# Altium schematic symbol library 电流检测IC.SchLib: 6 symbols
Pins are listed as number, name and electrical type; pins without a type are passive.

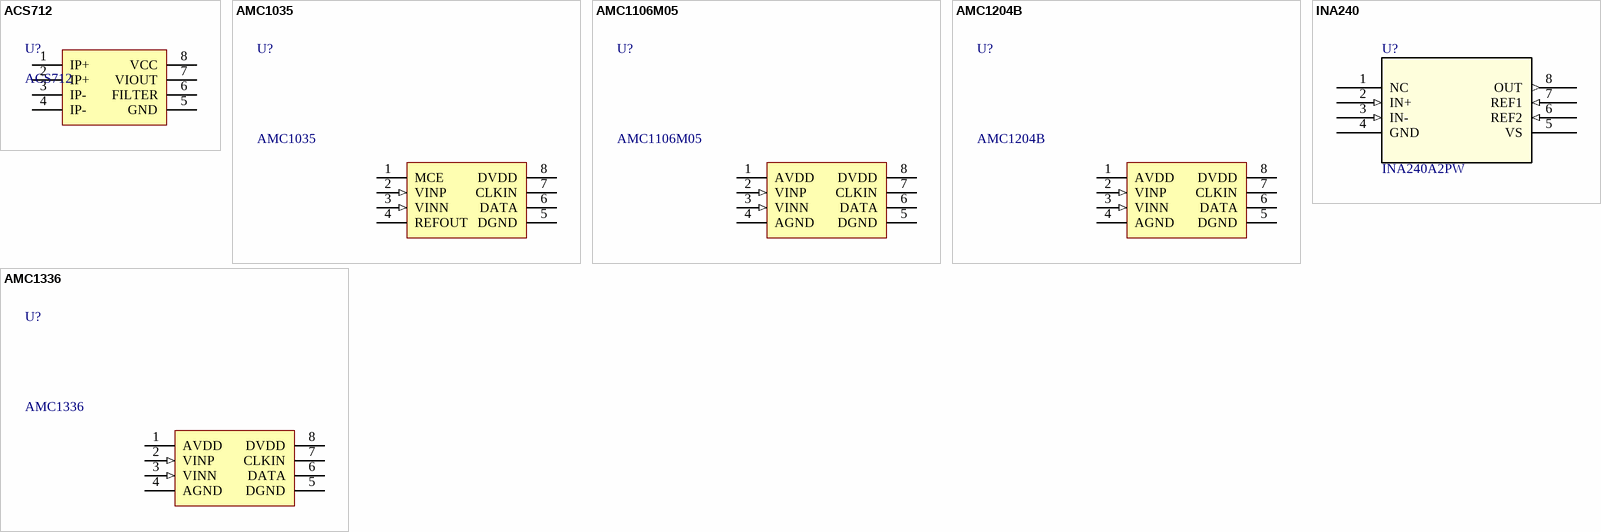
[diagram p0: symbols ACS712 to INA240]

## ACS712
designator U?
allegro霍尔电流检测芯片
footprint SOP8_L (5*6*1.8mm（长宽高）)
pins: 1 IP+ (power), 2 IP+ (power), 3 IP- (power), 4 IP- (power), 5 GND (power), 6 FILTER (power), 7 VIOUT (power), 8 VCC (power)

## AMC1035
designator U?
footprint SOP8_L (5*6*1.8mm（长宽高）)
pins: 1 MCE (power), 2 VINP (in), 3 VINN (in), 4 REFOUT (power), 5 DGND (power), 6 DATA (power), 7 CLKIN, 8 DVDD (power)

## AMC1106M05
designator U?
footprint SOIC-8 W=7.5mm (SOIC, 8-Leads, Body 5.85x7.50mm, Pitch 1.27mm, IPC Medium Density)
pins: 1 AVDD (power), 2 VINP (in), 3 VINN (in), 4 AGND (power), 5 DGND (power), 6 DATA (power), 7 CLKIN, 8 DVDD (power)

## AMC1204B
designator U?
footprint SOIC-8 W=7.5mm (SOIC, 8-Leads, Body 5.85x7.50mm, Pitch 1.27mm, IPC Medium Density)
pins: 1 AVDD (power), 2 VINP (in), 3 VINN (in), 4 AGND (power), 5 DGND (power), 6 DATA (power), 7 CLKIN, 8 DVDD (power)

## AMC1336
designator U?
footprint SOIC-8 W=7.5mm (SOIC, 8-Leads, Body 5.85x7.50mm, Pitch 1.27mm, IPC Medium Density)
pins: 1 AVDD (power), 2 VINP (in), 3 VINN (in), 4 AGND (power), 5 DGND (power), 6 DATA (power), 7 CLKIN, 8 DVDD (power)

## INA240
designator U?, comment INA240A2PW
No Description Available; Mfr_Name: Texas Instruments; Manufacturer_Part_Number: INA240A1PW; Copyright: Copyright (C) 2022 Ultra Librarian. All rights reserved.; RefDes: RefDes; Type: DEV
footprint TSSOP8_L 3*4.4mm
pins: 1 NC, 2 IN+ (in), 3 IN- (in), 4 GND (power), 5 VS (power), 6 REF2 (in), 7 REF1 (in), 8 OUT (out)